# EAGLE library part BMP183 (library vulcan-1)
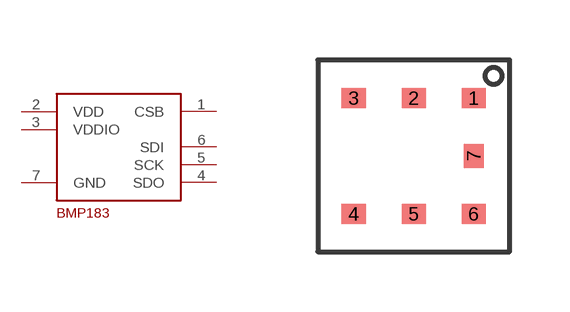
[diagram p5: symbol with the pads of LGA-7; footprint LGA-7]

Designator prefix -

## BMP183  [LGA-7]
1  CSB
2  VDD
3  VDDIO
4  SDO
5  SCK
6  SDI
7  GND

## Footprint LGA-7 (pad centres in mm)
smd 0.6 x 0.5: 1 1.5,1.45; 2 0,1.45; 3 -1.5,1.45; 4 -1.5,-1.45; 5 0,-1.45; 6 1.5,-1.45
smd 0.5 x 0.6: 7 1.5,0